# Altium integrated library National Semiconductor Voltage Reference.IntLib: 796 symbols (part 1 of 20)
Pins are listed as number, name and electrical type; pins without a type are passive.

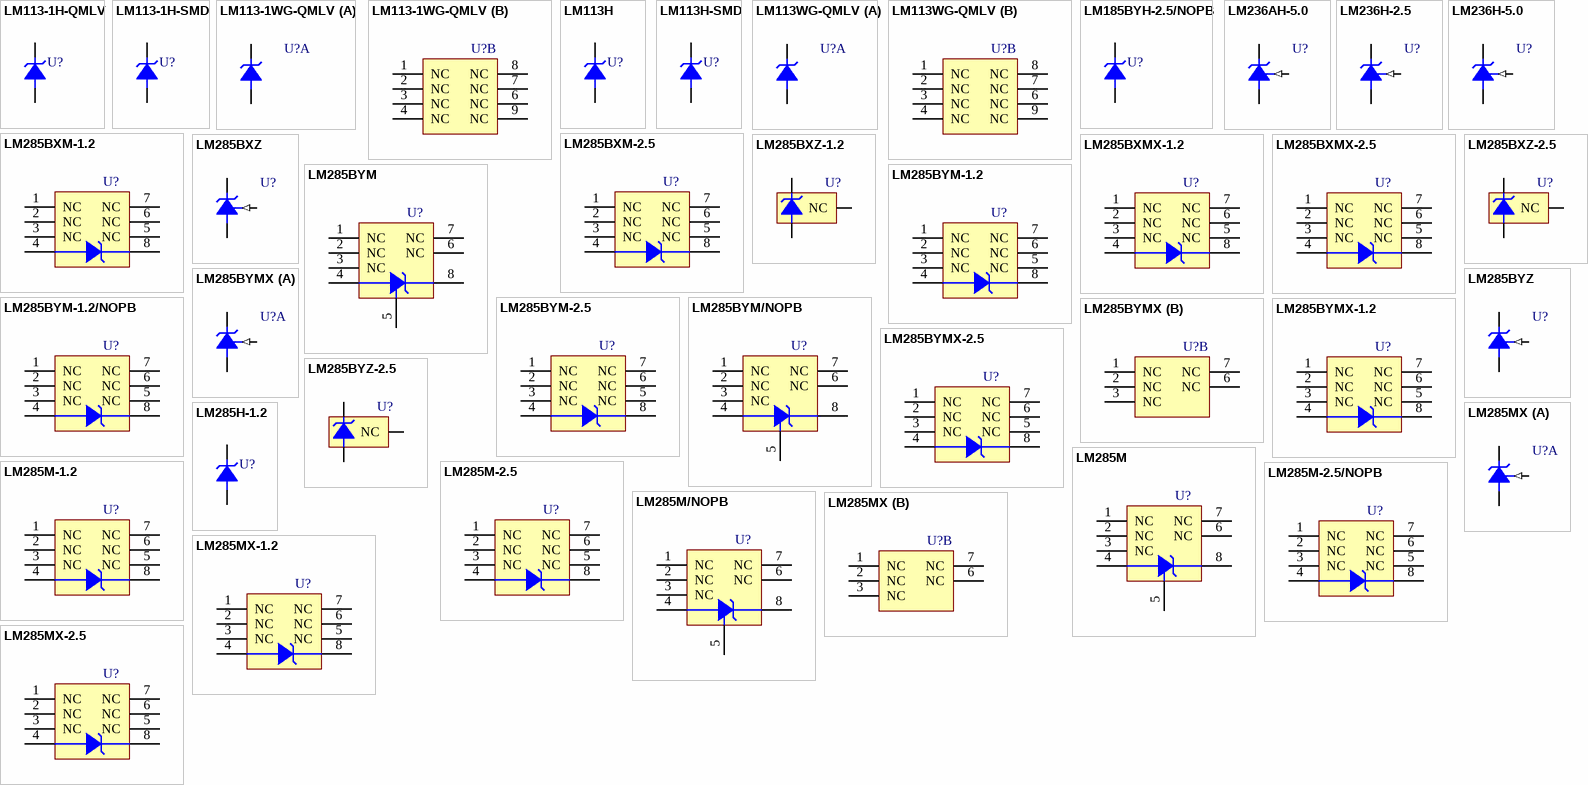
[diagram p0: symbols LM113-1H-QMLV to LM285MX-2.5]

## LM113-1H-QMLV
designator U?
Precision Reference, 2-pin TO-46; PartNumber: LM113-1H-QMLV; Manufacturer: National Semiconductor; PackageTopMarking: NSZSSXXYYA 9684302VXA Q; PowerWise: N; CompType: Voltage Reference IC; High-Reliability: Y; DatasheetVersion: Dec-1994; PackageVersion: revF, Apr-2002; PackageReference: H02A; PackageDescription: Metal Can, TO-46, 2 Lead, .100in Dia, P.C.; RoHS: N; PinCount: 2; Code_JEDEC: TO-46; ComponentLink1Description: Manufacturer URL; ComponentLink1URL: http://www.national.com/; ComponentLink2Description: LM113 Datasheet; ComponentLink2URL: http://www.national.com/ds/LM/LM113QML.pdf; ComponentLink3Description: LM113 Web Page; ComponentLink3URL: http://www.national.com/pf/LM/LM113.html; ComponentLink4Description: H02A Package Page; ComponentLink4URL: http://www.national.com/packaging/folders/h02a.html
footprint H02A (Can; 2 Leads; Pin Circle Dia. 2.54 mm; Lead Dia. 0.48 mm (max))
pins: 1 V+ (power), 2 V- (power)

## LM113-1H-SMD
designator U?
Precision Reference, 2-pin TO-46; PartNumber: LM113-1H-SMD; Manufacturer: National Semiconductor; PackageTopMarking: NSZSSXXYYA 8671102XA Q; PowerWise: N; CompType: Voltage Reference IC; High-Reliability: Y; DatasheetVersion: Dec-1994; PackageVersion: revF, Apr-2002; PackageReference: H02A; PackageDescription: Metal Can, TO-46, 2 Lead, .100in Dia, P.C.; RoHS: N; PinCount: 2; Code_JEDEC: TO-46; ComponentLink1Description: Manufacturer URL; ComponentLink1URL: http://www.national.com/; ComponentLink2Description: LM113 Datasheet; ComponentLink2URL: http://www.national.com/ds/LM/LM113QML.pdf; ComponentLink3Description: LM113 Web Page; ComponentLink3URL: http://www.national.com/pf/LM/LM113.html; ComponentLink4Description: H02A Package Page; ComponentLink4URL: http://www.national.com/packaging/folders/h02a.html
footprint H02A (Can; 2 Leads; Pin Circle Dia. 2.54 mm; Lead Dia. 0.48 mm (max))
pins: 1 V+ (power), 2 V- (power)

## LM113-1WG-QMLV
designator U?
Precision Reference, 10-pin CerPACK; PartNumber: LM113-1WG-QMLV; Manufacturer: National Semiconductor; PackageTopMarking: NS*ZSSXXYYA*9684302*VZA Q; PowerWise: N; CompType: Voltage Reference IC; High-Reliability: Y; DatasheetVersion: Dec-1994; PackageVersion: revF, Oct-2008; PackageReference: WG10A; PackageDescription: Cerpack, .270 x .241 x .070in, 10 Lead, .050in Pitch, Gull Wing; RoHS: N; PinCount: 10; ComponentLink1Description: Manufacturer URL; ComponentLink1URL: http://www.national.com/; ComponentLink2Description: LM113 Datasheet; ComponentLink2URL: http://www.national.com/ds/LM/LM113QML.pdf; ComponentLink3Description: LM113 Web Page; ComponentLink3URL: http://www.national.com/pf/LM/LM113.html; ComponentLink4Description: WG10A Package Page; ComponentLink4URL: http://www.national.com/packaging/folders/wg10a.html
footprint WG10A_N (CERPACK, 10-Leads, Body 6.9x6.3mm, Pitch 1.27mm, IPC Medium Density)
footprint WG10A_L (CERPACK, 10-Leads, Body 6.9x6.3mm, Pitch 1.27mm, IPC High Density)
footprint WG10A_M (CERPACK, 10-Leads, Body 6.9x6.3mm, Pitch 1.27mm, IPC Low Density)
part A pins: 5 -V, 10 +V
part B pins: 1 NC, 2 NC, 3 NC, 4 NC, 6 NC, 7 NC, 8 NC, 9 NC

## LM113H
designator U?
Precision Reference, 2-pin TO-46; PartNumber: LM113H; Manufacturer: National Semiconductor; PackageTopMarking: NSXYTTE# LM113H; PowerWise: N; CompType: Voltage Reference IC; High-Reliability: Y; DatasheetVersion: Dec-1994; PackageVersion: revF, Apr-2002; PackageReference: H02A; PackageDescription: Metal Can, TO-46, 2 Lead, .100in Dia, P.C.; RoHS: N; PinCount: 2; Code_JEDEC: TO-46; ComponentLink1Description: Manufacturer URL; ComponentLink1URL: http://www.national.com/; ComponentLink2Description: LM113 Datasheet; ComponentLink2URL: http://www.national.com/ds/LM/LM113.pdf; ComponentLink3Description: LM113 Web Page; ComponentLink3URL: http://www.national.com/pf/LM/LM113.html; ComponentLink4Description: H02A Package Page; ComponentLink4URL: http://www.national.com/packaging/folders/h02a.html
footprint H02A (Can; 2 Leads; Pin Circle Dia. 2.54 mm; Lead Dia. 0.48 mm (max))
pins: 1 V+ (power), 2 V- (power)

## LM113H-SMD
designator U?
Precision Reference, 2-pin TO-46; PartNumber: LM113H-SMD; Manufacturer: National Semiconductor; PackageTopMarking: NSZSSXXYYA 8671101XA Q; PowerWise: N; CompType: Voltage Reference IC; High-Reliability: Y; DatasheetVersion: Dec-1994; PackageVersion: revF, Apr-2002; PackageReference: H02A; PackageDescription: Metal Can, TO-46, 2 Lead, .100in Dia, P.C.; RoHS: N; PinCount: 2; Code_JEDEC: TO-46; ComponentLink1Description: Manufacturer URL; ComponentLink1URL: http://www.national.com/; ComponentLink2Description: LM113 Datasheet; ComponentLink2URL: http://www.national.com/ds/LM/LM113QML.pdf; ComponentLink3Description: LM113 Web Page; ComponentLink3URL: http://www.national.com/pf/LM/LM113.html; ComponentLink4Description: H02A Package Page; ComponentLink4URL: http://www.national.com/packaging/folders/h02a.html
footprint H02A (Can; 2 Leads; Pin Circle Dia. 2.54 mm; Lead Dia. 0.48 mm (max))
pins: 1 V+ (power), 2 V- (power)

## LM113WG-QMLV
designator U?
Precision Reference, 10-pin CerPACK; PartNumber: LM113WG-QMLV; Manufacturer: National Semiconductor; PackageTopMarking: NS*ZSSXXYYA*9684301*VZA Q; PowerWise: N; CompType: Voltage Reference IC; High-Reliability: Y; DatasheetVersion: Dec-1994; PackageVersion: revF, Oct-2008; PackageReference: WG10A; PackageDescription: Cerpack, .270 x .241 x .070in, 10 Lead, .050in Pitch, Gull Wing; RoHS: N; PinCount: 10; ComponentLink1Description: Manufacturer URL; ComponentLink1URL: http://www.national.com/; ComponentLink2Description: LM113 Datasheet; ComponentLink2URL: http://www.national.com/ds/LM/LM113QML.pdf; ComponentLink3Description: LM113 Web Page; ComponentLink3URL: http://www.national.com/pf/LM/LM113.html; ComponentLink4Description: WG10A Package Page; ComponentLink4URL: http://www.national.com/packaging/folders/wg10a.html
footprint WG10A_N (CERPACK, 10-Leads, Body 6.9x6.3mm, Pitch 1.27mm, IPC Medium Density)
footprint WG10A_L (CERPACK, 10-Leads, Body 6.9x6.3mm, Pitch 1.27mm, IPC High Density)
footprint WG10A_M (CERPACK, 10-Leads, Body 6.9x6.3mm, Pitch 1.27mm, IPC Low Density)
part A pins: 5 -V, 10 +V
part B pins: 1 NC, 2 NC, 3 NC, 4 NC, 6 NC, 7 NC, 8 NC, 9 NC

## LM185BYH-2.5/NOPB
designator U?
Micropower Voltage Reference Diode, 2-pin TO-46, Pb-Free; PartNumber: LM185BYH-2.5/NOPB; Manufacturer: National Semiconductor; PackageTopMarking: NSXYTTE# LM185BYH2.5; PowerWise: N; CompType: Voltage Reference IC; High-Reliability: Y; DatasheetVersion: Jan-2008; PackageVersion: revF, Apr-2002; PackageReference: H02A; PackageDescription: Metal Can, TO-46, 2 Lead, .100in Dia, P.C.; RoHS: Y; PinCount: 2; Code_JEDEC: TO-46; ComponentLink1Description: Manufacturer URL; ComponentLink1URL: http://www.national.com/; ComponentLink2Description: LM185-2.5 Datasheet; ComponentLink2URL: http://www.national.com/ds/LM/LM185-2.5.pdf; ComponentLink3Description: LM185-2.5 Web Page; ComponentLink3URL: http://www.national.com/pf/LM/LM185-2.5.html; ComponentLink4Description: H02A Package Page; ComponentLink4URL: http://www.national.com/packaging/folders/h02a.html
footprint H02A (Can; 2 Leads; Pin Circle Dia. 2.54 mm; Lead Dia. 0.48 mm (max))
pins: 1 V+ (power), 2 V- (power)

## LM236AH-5.0
designator U?
5.0V Reference Diode, 3-pin TO-46; PartNumber: LM236AH-5.0; Manufacturer: National Semiconductor; PackageTopMarking: NSXYTTE# LM236AH5.0; PowerWise: N; CompType: Voltage Reference IC; High-Reliability: Y; DatasheetVersion: Jun-2005; PackageVersion: revF, Apr-2002; PackageReference: H03H; PackageDescription: Metal Can, TO-46, 3 Lead, .100in Dia, P.C.; RoHS: N; PinCount: 3; Code_JEDEC: TO-46; ComponentLink1Description: Manufacturer URL; ComponentLink1URL: http://www.national.com/; ComponentLink2Description: LM136-5.0 Datasheet; ComponentLink2URL: http://www.national.com/ds/LM/LM136-5.0.pdf; ComponentLink3Description: LM136-5.0 Web Page; ComponentLink3URL: http://www.national.com/pf/LM/LM136-5.0.html; ComponentLink4Description: H03H Package Page; ComponentLink4URL: http://www.national.com/packaging/folders/h03h.html
footprint H03H (Can; 3 Leads; Pin Circle Dia. 2.54 mm; Lead Dia. 0.48 mm (max))
pins: 1 ADJ (in), 2 +V, 3 -V

## LM236H-2.5
designator U?
Voltage Reference Diode, 3-pin TO-46; PartNumber: LM236H-2.5; Manufacturer: National Semiconductor; PackageTopMarking: NSXYTTE# LM236H2.5; PowerWise: N; CompType: Voltage Reference IC; High-Reliability: Y; DatasheetVersion: Jun-2005; PackageVersion: revF, Apr-2002; PackageReference: H03H; PackageDescription: Metal Can, TO-46, 3 Lead, .100in Dia, P.C.; RoHS: N; PinCount: 3; Code_JEDEC: TO-46; ComponentLink1Description: Manufacturer URL; ComponentLink1URL: http://www.national.com/; ComponentLink2Description: LM136-2.5 Datasheet; ComponentLink2URL: http://www.national.com/ds/LM/LM136-2.5.pdf; ComponentLink3Description: LM136-2.5 Web Page; ComponentLink3URL: http://www.national.com/pf/LM/LM136-2.5.html; ComponentLink4Description: H03H Package Page; ComponentLink4URL: http://www.national.com/packaging/folders/h03h.html
footprint H03H (Can; 3 Leads; Pin Circle Dia. 2.54 mm; Lead Dia. 0.48 mm (max))
pins: 1 ADJ (in), 2 +V, 3 -V

## LM236H-5.0
designator U?
5.0V Reference Diode, 3-pin TO-46; PartNumber: LM236H-5.0; Manufacturer: National Semiconductor; PackageTopMarking: NSXYTTE# LM236H5.0; PowerWise: N; CompType: Voltage Reference IC; High-Reliability: Y; DatasheetVersion: Jun-2005; PackageVersion: revF, Apr-2002; PackageReference: H03H; PackageDescription: Metal Can, TO-46, 3 Lead, .100in Dia, P.C.; RoHS: N; PinCount: 3; Code_JEDEC: TO-46; ComponentLink1Description: Manufacturer URL; ComponentLink1URL: http://www.national.com/; ComponentLink2Description: LM136-5.0 Datasheet; ComponentLink2URL: http://www.national.com/ds/LM/LM136-5.0.pdf; ComponentLink3Description: LM136-5.0 Web Page; ComponentLink3URL: http://www.national.com/pf/LM/LM136-5.0.html; ComponentLink4Description: H03H Package Page; ComponentLink4URL: http://www.national.com/packaging/folders/h03h.html
footprint H03H (Can; 3 Leads; Pin Circle Dia. 2.54 mm; Lead Dia. 0.48 mm (max))
pins: 1 ADJ (in), 2 +V, 3 -V

## LM285BXM-1.2
designator U?
Micropower Voltage Reference Diode, 8-pin Narrow SOIC; PartNumber: LM285BXM-1.2; Manufacturer: National Semiconductor; PackageTopMarking: NSZXTT*285BX*M1.2; PowerWise: N; CompType: Voltage Reference IC; High-Reliability: Y; DatasheetVersion: Jan-2008; PackageVersion: revM, May-2009; PackageReference: M08A; PackageDescription: SOIC Narrow, 4.9 x 3.9 x 1.45mm, 8 Lead, 1.27mm Pitch; RoHS: N; PinCount: 8; Code_JEDEC: MS-012-AA; Code_IPC: SOIC127P600-8; ComponentLink1Description: Manufacturer URL; ComponentLink1URL: http://www.national.com/; ComponentLink2Description: LM285-1.2 Datasheet; ComponentLink2URL: http://www.national.com/ds/LM/LM285-1.2.pdf; ComponentLink3Description: LM285-1.2 Web Page; ComponentLink3URL: http://www.national.com/pf/LM/LM285-1.2.html; ComponentLink4Description: M08A Package Page; ComponentLink4URL: http://www.national.com/packaging/folders/m08a.html
footprint M08A_N (SOIC, 8-Leads, Body 4.9x3.9mm, Pitch 1.27mm, IPC Medium Density)
footprint M08A_L (SOIC, 8-Leads, Body 4.9x3.9mm, Pitch 1.27mm, IPC High Density)
footprint M08A_M (SOIC, 8-Leads, Body 4.9x3.9mm, Pitch 1.27mm, IPC Low Density)
pins: 1 NC, 2 NC, 3 NC, 4 -V, 5 NC, 6 NC, 7 NC, 8 +V

## LM285BXM-2.5
designator U?
Micropower Voltage Reference Diode, 8-pin Narrow SOIC; PartNumber: LM285BXM-2.5; Manufacturer: National Semiconductor; PackageTopMarking: NSZXTT*285BX*M2.5; PowerWise: N; CompType: Voltage Reference IC; High-Reliability: Y; DatasheetVersion: Jan-2008; PackageVersion: revM, May-2009; PackageReference: M08A; PackageDescription: SOIC Narrow, 4.9 x 3.9 x 1.45mm, 8 Lead, 1.27mm Pitch; RoHS: N; PinCount: 8; Code_JEDEC: MS-012-AA; Code_IPC: SOIC127P600-8; ComponentLink1Description: Manufacturer URL; ComponentLink1URL: http://www.national.com/; ComponentLink2Description: LM285-2.5 Datasheet; ComponentLink2URL: http://www.national.com/ds/LM/LM285-2.5.pdf; ComponentLink3Description: LM285-2.5 Web Page; ComponentLink3URL: http://www.national.com/pf/LM/LM285-2.5.html; ComponentLink4Description: M08A Package Page; ComponentLink4URL: http://www.national.com/packaging/folders/m08a.html
footprint M08A_N (SOIC, 8-Leads, Body 4.9x3.9mm, Pitch 1.27mm, IPC Medium Density)
footprint M08A_L (SOIC, 8-Leads, Body 4.9x3.9mm, Pitch 1.27mm, IPC High Density)
footprint M08A_M (SOIC, 8-Leads, Body 4.9x3.9mm, Pitch 1.27mm, IPC Low Density)
pins: 1 NC, 2 NC, 3 NC, 4 -V, 5 NC, 6 NC, 7 NC, 8 +V

## LM285BXMX-1.2
designator U?
Micropower Voltage Reference Diode, 8-pin Narrow SOIC; PartNumber: LM285BXMX-1.2; Manufacturer: National Semiconductor; PackageTopMarking: NSZXTT*285BX*M1.2; PowerWise: N; CompType: Voltage Reference IC; High-Reliability: Y; DatasheetVersion: Jan-2008; PackageVersion: revM, May-2009; PackageReference: M08A; PackageDescription: SOIC Narrow, 4.9 x 3.9 x 1.45mm, 8 Lead, 1.27mm Pitch; RoHS: N; PinCount: 8; Code_JEDEC: MS-012-AA; Code_IPC: SOIC127P600-8; ComponentLink1Description: Manufacturer URL; ComponentLink1URL: http://www.national.com/; ComponentLink2Description: LM285-1.2 Datasheet; ComponentLink2URL: http://www.national.com/ds/LM/LM285-1.2.pdf; ComponentLink3Description: LM285-1.2 Web Page; ComponentLink3URL: http://www.national.com/pf/LM/LM285-1.2.html; ComponentLink4Description: M08A Package Page; ComponentLink4URL: http://www.national.com/packaging/folders/m08a.html
footprint M08A_N (SOIC, 8-Leads, Body 4.9x3.9mm, Pitch 1.27mm, IPC Medium Density)
footprint M08A_L (SOIC, 8-Leads, Body 4.9x3.9mm, Pitch 1.27mm, IPC High Density)
footprint M08A_M (SOIC, 8-Leads, Body 4.9x3.9mm, Pitch 1.27mm, IPC Low Density)
pins: 1 NC, 2 NC, 3 NC, 4 -V, 5 NC, 6 NC, 7 NC, 8 +V

## LM285BXMX-2.5
designator U?
Micropower Voltage Reference Diode, 8-pin Narrow SOIC; PartNumber: LM285BXMX-2.5; Manufacturer: National Semiconductor; PackageTopMarking: NSZXTT*285BX*M2.5; PowerWise: N; CompType: Voltage Reference IC; High-Reliability: Y; DatasheetVersion: Jan-2008; PackageVersion: revM, May-2009; PackageReference: M08A; PackageDescription: SOIC Narrow, 4.9 x 3.9 x 1.45mm, 8 Lead, 1.27mm Pitch; RoHS: N; PinCount: 8; Code_JEDEC: MS-012-AA; Code_IPC: SOIC127P600-8; ComponentLink1Description: Manufacturer URL; ComponentLink1URL: http://www.national.com/; ComponentLink2Description: LM285-2.5 Datasheet; ComponentLink2URL: http://www.national.com/ds/LM/LM285-2.5.pdf; ComponentLink3Description: LM285-2.5 Web Page; ComponentLink3URL: http://www.national.com/pf/LM/LM285-2.5.html; ComponentLink4Description: M08A Package Page; ComponentLink4URL: http://www.national.com/packaging/folders/m08a.html
footprint M08A_N (SOIC, 8-Leads, Body 4.9x3.9mm, Pitch 1.27mm, IPC Medium Density)
footprint M08A_L (SOIC, 8-Leads, Body 4.9x3.9mm, Pitch 1.27mm, IPC High Density)
footprint M08A_M (SOIC, 8-Leads, Body 4.9x3.9mm, Pitch 1.27mm, IPC Low Density)
pins: 1 NC, 2 NC, 3 NC, 4 -V, 5 NC, 6 NC, 7 NC, 8 +V

## LM285BXZ
designator U?
Adjustable Micropower Voltage Reference, 3-pin TO-92; PartNumber: LM285BXZ; Manufacturer: National Semiconductor; PackageTopMarking: NSXYTT*LM285*BXZ; PowerWise: N; CompType: Voltage Reference IC; High-Reliability: Y; DatasheetVersion: Jan-2008; PackageVersion: revG, Sep-2000; PackageReference: Z03A; PackageDescription: TO-92, Molded, 3 Lead; RoHS: N; PinCount: 3; Code_JEDEC: TO-226-AA; ComponentLink1Description: Manufacturer URL; ComponentLink1URL: http://www.national.com/; ComponentLink2Description: LM285-ADJ Datasheet; ComponentLink2URL: http://www.national.com/ds/LM/LM285-ADJ.pdf; ComponentLink3Description: LM285-ADJ Web Page; ComponentLink3URL: http://www.national.com/pf/LM/LM285-ADJ.html; ComponentLink4Description: Z03A Package Page; ComponentLink4URL: http://www.national.com/packaging/folders/z03a.html
footprint Z03A (TO, Flat Index; 3 In-Line, Axial Leads; Body Dia. 5mm; Leads 0.55 x 0.50 mm (max))
pins: 1 FB (in), 2 +V, 3 -V

## LM285BXZ-1.2
designator U?
Micropower Voltage Reference Diode, 3-pin TO-92; PartNumber: LM285BXZ-1.2; Manufacturer: National Semiconductor; PackageTopMarking: NSXYTT*285BX*Z-1.2; PowerWise: N; CompType: Voltage Reference IC; High-Reliability: Y; DatasheetVersion: Jan-2008; PackageVersion: revG, Sep-2000; PackageReference: Z03A; PackageDescription: TO-92, Molded, 3 Lead; RoHS: N; PinCount: 3; Code_JEDEC: TO-226-AA; ComponentLink1Description: Manufacturer URL; ComponentLink1URL: http://www.national.com/; ComponentLink2Description: LM285-1.2 Datasheet; ComponentLink2URL: http://www.national.com/ds/LM/LM285-1.2.pdf; ComponentLink3Description: LM285-1.2 Web Page; ComponentLink3URL: http://www.national.com/pf/LM/LM285-1.2.html; ComponentLink4Description: Z03A Package Page; ComponentLink4URL: http://www.national.com/packaging/folders/z03a.html
footprint Z03A (TO, Flat Index; 3 In-Line, Axial Leads; Body Dia. 5mm; Leads 0.55 x 0.50 mm (max))
pins: 1 NC, 2 +V, 3 -V

## LM285BXZ-2.5
designator U?
Micropower Voltage Reference Diode, 3-pin TO-92; PartNumber: LM285BXZ-2.5; Manufacturer: National Semiconductor; PackageTopMarking: NSXYTT*285BX*Z2.5; PowerWise: N; CompType: Voltage Reference IC; High-Reliability: Y; DatasheetVersion: Jan-2008; PackageVersion: revG, Sep-2000; PackageReference: Z03A; PackageDescription: TO-92, Molded, 3 Lead; RoHS: N; PinCount: 3; Code_JEDEC: TO-226-AA; ComponentLink1Description: Manufacturer URL; ComponentLink1URL: http://www.national.com/; ComponentLink2Description: LM285-2.5 Datasheet; ComponentLink2URL: http://www.national.com/ds/LM/LM285-2.5.pdf; ComponentLink3Description: LM285-2.5 Web Page; ComponentLink3URL: http://www.national.com/pf/LM/LM285-2.5.html; ComponentLink4Description: Z03A Package Page; ComponentLink4URL: http://www.national.com/packaging/folders/z03a.html
footprint Z03A (TO, Flat Index; 3 In-Line, Axial Leads; Body Dia. 5mm; Leads 0.55 x 0.50 mm (max))
pins: 1 NC, 2 +V, 3 -V

## LM285BYM
designator U?
Adjustable Micropower Voltage Reference, 8-pin Narrow SOIC; PartNumber: LM285BYM; Manufacturer: National Semiconductor; PackageTopMarking: NSZXTT*LM285*BYM; PowerWise: N; CompType: Voltage Reference IC; High-Reliability: Y; DatasheetVersion: Jan-2008; PackageVersion: revM, May-2009; PackageReference: M08A; PackageDescription: SOIC Narrow, 4.9 x 3.9 x 1.45mm, 8 Lead, 1.27mm Pitch; RoHS: N; PinCount: 8; Code_JEDEC: MS-012-AA; Code_IPC: SOIC127P600-8; ComponentLink1Description: Manufacturer URL; ComponentLink1URL: http://www.national.com/; ComponentLink2Description: LM285-ADJ Datasheet; ComponentLink2URL: http://www.national.com/ds/LM/LM285-ADJ.pdf; ComponentLink3Description: LM285-ADJ Web Page; ComponentLink3URL: http://www.national.com/pf/LM/LM285-ADJ.html; ComponentLink4Description: M08A Package Page; ComponentLink4URL: http://www.national.com/packaging/folders/m08a.html
footprint M08A_N (SOIC, 8-Leads, Body 4.9x3.9mm, Pitch 1.27mm, IPC Medium Density)
footprint M08A_L (SOIC, 8-Leads, Body 4.9x3.9mm, Pitch 1.27mm, IPC High Density)
footprint M08A_M (SOIC, 8-Leads, Body 4.9x3.9mm, Pitch 1.27mm, IPC Low Density)
pins: 1 NC, 2 NC, 3 NC, 4 -V, 5 FB, 6 NC, 7 NC, 8 +V

## LM285BYM-1.2
designator U?
Micropower Voltage Reference Diode, 8-pin Narrow SOIC; PartNumber: LM285BYM-1.2; Manufacturer: National Semiconductor; PackageTopMarking: NSZXTT*285BY*M1.2; PowerWise: N; CompType: Voltage Reference IC; High-Reliability: Y; DatasheetVersion: Jan-2008; PackageVersion: revM, May-2009; PackageReference: M08A; PackageDescription: SOIC Narrow, 4.9 x 3.9 x 1.45mm, 8 Lead, 1.27mm Pitch; RoHS: N; PinCount: 8; Code_JEDEC: MS-012-AA; Code_IPC: SOIC127P600-8; ComponentLink1Description: Manufacturer URL; ComponentLink1URL: http://www.national.com/; ComponentLink2Description: LM285-1.2 Datasheet; ComponentLink2URL: http://www.national.com/ds/LM/LM285-1.2.pdf; ComponentLink3Description: LM285-1.2 Web Page; ComponentLink3URL: http://www.national.com/pf/LM/LM285-1.2.html; ComponentLink4Description: M08A Package Page; ComponentLink4URL: http://www.national.com/packaging/folders/m08a.html
footprint M08A_N (SOIC, 8-Leads, Body 4.9x3.9mm, Pitch 1.27mm, IPC Medium Density)
footprint M08A_L (SOIC, 8-Leads, Body 4.9x3.9mm, Pitch 1.27mm, IPC High Density)
footprint M08A_M (SOIC, 8-Leads, Body 4.9x3.9mm, Pitch 1.27mm, IPC Low Density)
pins: 1 NC, 2 NC, 3 NC, 4 -V, 5 NC, 6 NC, 7 NC, 8 +V

## LM285BYM-1.2/NOPB
designator U?
Micropower Voltage Reference Diode, 8-pin Narrow SOIC, Pb-Free; PartNumber: LM285BYM-1.2/NOPB; Manufacturer: National Semiconductor; PackageTopMarking: NSZXTT*285BY*M1.2; PowerWise: N; CompType: Voltage Reference IC; High-Reliability: Y; DatasheetVersion: Jan-2008; PackageVersion: revM, May-2009; PackageReference: M08A; PackageDescription: SOIC Narrow, 4.9 x 3.9 x 1.45mm, 8 Lead, 1.27mm Pitch; RoHS: Y; PinCount: 8; Code_JEDEC: MS-012-AA; Code_IPC: SOIC127P600-8; ComponentLink1Description: Manufacturer URL; ComponentLink1URL: http://www.national.com/; ComponentLink2Description: LM285-1.2 Datasheet; ComponentLink2URL: http://www.national.com/ds/LM/LM285-1.2.pdf; ComponentLink3Description: LM285-1.2 Web Page; ComponentLink3URL: http://www.national.com/pf/LM/LM285-1.2.html; ComponentLink4Description: M08A Package Page; ComponentLink4URL: http://www.national.com/packaging/folders/m08a.html
footprint M08A_N (SOIC, 8-Leads, Body 4.9x3.9mm, Pitch 1.27mm, IPC Medium Density)
footprint M08A_L (SOIC, 8-Leads, Body 4.9x3.9mm, Pitch 1.27mm, IPC High Density)
footprint M08A_M (SOIC, 8-Leads, Body 4.9x3.9mm, Pitch 1.27mm, IPC Low Density)
pins: 1 NC, 2 NC, 3 NC, 4 -V, 5 NC, 6 NC, 7 NC, 8 +V

## LM285BYM-2.5
designator U?
Micropower Voltage Reference Diode, 8-pin Narrow SOIC; PartNumber: LM285BYM-2.5; Manufacturer: National Semiconductor; PackageTopMarking: NSZXTT*285BY*M2.5; PowerWise: N; CompType: Voltage Reference IC; High-Reliability: Y; DatasheetVersion: Jan-2008; PackageVersion: revM, May-2009; PackageReference: M08A; PackageDescription: SOIC Narrow, 4.9 x 3.9 x 1.45mm, 8 Lead, 1.27mm Pitch; RoHS: N; PinCount: 8; Code_JEDEC: MS-012-AA; Code_IPC: SOIC127P600-8; ComponentLink1Description: Manufacturer URL; ComponentLink1URL: http://www.national.com/; ComponentLink2Description: LM285-2.5 Datasheet; ComponentLink2URL: http://www.national.com/ds/LM/LM285-2.5.pdf; ComponentLink3Description: LM285-2.5 Web Page; ComponentLink3URL: http://www.national.com/pf/LM/LM285-2.5.html; ComponentLink4Description: M08A Package Page; ComponentLink4URL: http://www.national.com/packaging/folders/m08a.html
footprint M08A_N (SOIC, 8-Leads, Body 4.9x3.9mm, Pitch 1.27mm, IPC Medium Density)
footprint M08A_L (SOIC, 8-Leads, Body 4.9x3.9mm, Pitch 1.27mm, IPC High Density)
footprint M08A_M (SOIC, 8-Leads, Body 4.9x3.9mm, Pitch 1.27mm, IPC Low Density)
pins: 1 NC, 2 NC, 3 NC, 4 -V, 5 NC, 6 NC, 7 NC, 8 +V

## LM285BYM/NOPB
designator U?
Adjustable Micropower Voltage Reference, 8-pin Narrow SOIC, Pb-Free; PartNumber: LM285BYM/NOPB; Manufacturer: National Semiconductor; PackageTopMarking: NSZXTT*LM285*BYM; PowerWise: N; CompType: Voltage Reference IC; High-Reliability: Y; DatasheetVersion: Jan-2008; PackageVersion: revM, May-2009; PackageReference: M08A; PackageDescription: SOIC Narrow, 4.9 x 3.9 x 1.45mm, 8 Lead, 1.27mm Pitch; RoHS: Y; PinCount: 8; Code_JEDEC: MS-012-AA; Code_IPC: SOIC127P600-8; ComponentLink1Description: Manufacturer URL; ComponentLink1URL: http://www.national.com/; ComponentLink2Description: LM285-ADJ Datasheet; ComponentLink2URL: http://www.national.com/ds/LM/LM285-ADJ.pdf; ComponentLink3Description: LM285-ADJ Web Page; ComponentLink3URL: http://www.national.com/pf/LM/LM285-ADJ.html; ComponentLink4Description: M08A Package Page; ComponentLink4URL: http://www.national.com/packaging/folders/m08a.html
footprint M08A_N (SOIC, 8-Leads, Body 4.9x3.9mm, Pitch 1.27mm, IPC Medium Density)
footprint M08A_L (SOIC, 8-Leads, Body 4.9x3.9mm, Pitch 1.27mm, IPC High Density)
footprint M08A_M (SOIC, 8-Leads, Body 4.9x3.9mm, Pitch 1.27mm, IPC Low Density)
pins: 1 NC, 2 NC, 3 NC, 4 -V, 5 FB, 6 NC, 7 NC, 8 +V

## LM285BYMX
designator U?
Adjustable Micropower Voltage Reference, 8-pin Narrow SOIC; PartNumber: LM285BYMX; Manufacturer: National Semiconductor; PackageTopMarking: NSZXTT*LM285*BYM; PowerWise: N; CompType: Voltage Reference IC; High-Reliability: Y; DatasheetVersion: Jan-2008; PackageVersion: revM, May-2009; PackageReference: M08A; PackageDescription: SOIC Narrow, 4.9 x 3.9 x 1.45mm, 8 Lead, 1.27mm Pitch; RoHS: N; PinCount: 8; Code_JEDEC: MS-012-AA; Code_IPC: SOIC127P600-8; ComponentLink1Description: Manufacturer URL; ComponentLink1URL: http://www.national.com/; ComponentLink2Description: LM285-ADJ Datasheet; ComponentLink2URL: http://www.national.com/ds/LM/LM285-ADJ.pdf; ComponentLink3Description: LM285-ADJ Web Page; ComponentLink3URL: http://www.national.com/pf/LM/LM285-ADJ.html; ComponentLink4Description: M08A Package Page; ComponentLink4URL: http://www.national.com/packaging/folders/m08a.html
footprint M08A_N (SOIC, 8-Leads, Body 4.9x3.9mm, Pitch 1.27mm, IPC Medium Density)
footprint M08A_L (SOIC, 8-Leads, Body 4.9x3.9mm, Pitch 1.27mm, IPC High Density)
footprint M08A_M (SOIC, 8-Leads, Body 4.9x3.9mm, Pitch 1.27mm, IPC Low Density)
part A pins: 4 -V, 5 FB (in), 8 +V
part B pins: 1 NC, 2 NC, 3 NC, 6 NC, 7 NC

## LM285BYMX-1.2
designator U?
Micropower Voltage Reference Diode, 8-pin Narrow SOIC; PartNumber: LM285BYMX-1.2; Manufacturer: National Semiconductor; PackageTopMarking: NSZXTT*285BY*M1.2; PowerWise: N; CompType: Voltage Reference IC; High-Reliability: Y; DatasheetVersion: Jan-2008; PackageVersion: revM, May-2009; PackageReference: M08A; PackageDescription: SOIC Narrow, 4.9 x 3.9 x 1.45mm, 8 Lead, 1.27mm Pitch; RoHS: N; PinCount: 8; Code_JEDEC: MS-012-AA; Code_IPC: SOIC127P600-8; ComponentLink1Description: Manufacturer URL; ComponentLink1URL: http://www.national.com/; ComponentLink2Description: LM285-1.2 Datasheet; ComponentLink2URL: http://www.national.com/ds/LM/LM285-1.2.pdf; ComponentLink3Description: LM285-1.2 Web Page; ComponentLink3URL: http://www.national.com/pf/LM/LM285-1.2.html; ComponentLink4Description: M08A Package Page; ComponentLink4URL: http://www.national.com/packaging/folders/m08a.html
footprint M08A_N (SOIC, 8-Leads, Body 4.9x3.9mm, Pitch 1.27mm, IPC Medium Density)
footprint M08A_L (SOIC, 8-Leads, Body 4.9x3.9mm, Pitch 1.27mm, IPC High Density)
footprint M08A_M (SOIC, 8-Leads, Body 4.9x3.9mm, Pitch 1.27mm, IPC Low Density)
pins: 1 NC, 2 NC, 3 NC, 4 -V, 5 NC, 6 NC, 7 NC, 8 +V

## LM285BYMX-2.5
designator U?
Micropower Voltage Reference Diode, 8-pin Narrow SOIC; PartNumber: LM285BYMX-2.5; Manufacturer: National Semiconductor; PackageTopMarking: NSZXTT*285BY*M2.5; PowerWise: N; CompType: Voltage Reference IC; High-Reliability: Y; DatasheetVersion: Jan-2008; PackageVersion: revM, May-2009; PackageReference: M08A; PackageDescription: SOIC Narrow, 4.9 x 3.9 x 1.45mm, 8 Lead, 1.27mm Pitch; RoHS: N; PinCount: 8; Code_JEDEC: MS-012-AA; Code_IPC: SOIC127P600-8; ComponentLink1Description: Manufacturer URL; ComponentLink1URL: http://www.national.com/; ComponentLink2Description: LM285-2.5 Datasheet; ComponentLink2URL: http://www.national.com/ds/LM/LM285-2.5.pdf; ComponentLink3Description: LM285-2.5 Web Page; ComponentLink3URL: http://www.national.com/pf/LM/LM285-2.5.html; ComponentLink4Description: M08A Package Page; ComponentLink4URL: http://www.national.com/packaging/folders/m08a.html
footprint M08A_N (SOIC, 8-Leads, Body 4.9x3.9mm, Pitch 1.27mm, IPC Medium Density)
footprint M08A_L (SOIC, 8-Leads, Body 4.9x3.9mm, Pitch 1.27mm, IPC High Density)
footprint M08A_M (SOIC, 8-Leads, Body 4.9x3.9mm, Pitch 1.27mm, IPC Low Density)
pins: 1 NC, 2 NC, 3 NC, 4 -V, 5 NC, 6 NC, 7 NC, 8 +V

## LM285BYZ
designator U?
Adjustable Micropower Voltage Reference, 3-pin TO-92; PartNumber: LM285BYZ; Manufacturer: National Semiconductor; PackageTopMarking: NSXYTT*LM285*BYZ; PowerWise: N; CompType: Voltage Reference IC; High-Reliability: Y; DatasheetVersion: Jan-2008; PackageVersion: revG, Sep-2000; PackageReference: Z03A; PackageDescription: TO-92, Molded, 3 Lead; RoHS: N; PinCount: 3; Code_JEDEC: TO-226-AA; ComponentLink1Description: Manufacturer URL; ComponentLink1URL: http://www.national.com/; ComponentLink2Description: LM285-ADJ Datasheet; ComponentLink2URL: http://www.national.com/ds/LM/LM285-ADJ.pdf; ComponentLink3Description: LM285-ADJ Web Page; ComponentLink3URL: http://www.national.com/pf/LM/LM285-ADJ.html; ComponentLink4Description: Z03A Package Page; ComponentLink4URL: http://www.national.com/packaging/folders/z03a.html
footprint Z03A (TO, Flat Index; 3 In-Line, Axial Leads; Body Dia. 5mm; Leads 0.55 x 0.50 mm (max))
pins: 1 FB (in), 2 +V, 3 -V

## LM285BYZ-2.5
designator U?
Micropower Voltage Reference Diode, 3-pin TO-92; PartNumber: LM285BYZ-2.5; Manufacturer: National Semiconductor; PackageTopMarking: NSXYTT*285BY*Z2.5; PowerWise: N; CompType: Voltage Reference IC; High-Reliability: Y; DatasheetVersion: Jan-2008; PackageVersion: revG, Sep-2000; PackageReference: Z03A; PackageDescription: TO-92, Molded, 3 Lead; RoHS: N; PinCount: 3; Code_JEDEC: TO-226-AA; ComponentLink1Description: Manufacturer URL; ComponentLink1URL: http://www.national.com/; ComponentLink2Description: LM285-2.5 Datasheet; ComponentLink2URL: http://www.national.com/ds/LM/LM285-2.5.pdf; ComponentLink3Description: LM285-2.5 Web Page; ComponentLink3URL: http://www.national.com/pf/LM/LM285-2.5.html; ComponentLink4Description: Z03A Package Page; ComponentLink4URL: http://www.national.com/packaging/folders/z03a.html
footprint Z03A (TO, Flat Index; 3 In-Line, Axial Leads; Body Dia. 5mm; Leads 0.55 x 0.50 mm (max))
pins: 1 NC, 2 +V, 3 -V

## LM285H-1.2
designator U?
Micropower Voltage Reference Diode, 2-pin TO-46; PartNumber: LM285H-1.2; Manufacturer: National Semiconductor; PackageTopMarking: NSXYTTE# LM285H1.2; PowerWise: N; CompType: Voltage Reference IC; High-Reliability: Y; DatasheetVersion: Jan-2008; PackageVersion: revF, Apr-2002; PackageReference: H02A; PackageDescription: Metal Can, TO-46, 2 Lead, .100in Dia, P.C.; RoHS: N; PinCount: 2; Code_JEDEC: TO-46; ComponentLink1Description: Manufacturer URL; ComponentLink1URL: http://www.national.com/; ComponentLink2Description: LM285-1.2 Datasheet; ComponentLink2URL: http://www.national.com/ds/LM/LM285-1.2.pdf; ComponentLink3Description: LM285-1.2 Web Page; ComponentLink3URL: http://www.national.com/pf/LM/LM285-1.2.html; ComponentLink4Description: H02A Package Page; ComponentLink4URL: http://www.national.com/packaging/folders/h02a.html
footprint H02A (Can; 2 Leads; Pin Circle Dia. 2.54 mm; Lead Dia. 0.48 mm (max))
pins: 1 V+ (power), 2 V- (power)

## LM285M
designator U?
Adjustable Micropower Voltage Reference, 8-pin Narrow SOIC; PartNumber: LM285M; Manufacturer: National Semiconductor; PackageTopMarking: NSZXTT*LM285*M; PowerWise: N; CompType: Voltage Reference IC; High-Reliability: Y; DatasheetVersion: Jan-2008; PackageVersion: revM, May-2009; PackageReference: M08A; PackageDescription: SOIC Narrow, 4.9 x 3.9 x 1.45mm, 8 Lead, 1.27mm Pitch; RoHS: N; PinCount: 8; Code_JEDEC: MS-012-AA; Code_IPC: SOIC127P600-8; ComponentLink1Description: Manufacturer URL; ComponentLink1URL: http://www.national.com/; ComponentLink2Description: LM285-ADJ Datasheet; ComponentLink2URL: http://www.national.com/ds/LM/LM285-ADJ.pdf; ComponentLink3Description: LM285-ADJ Web Page; ComponentLink3URL: http://www.national.com/pf/LM/LM285-ADJ.html; ComponentLink4Description: M08A Package Page; ComponentLink4URL: http://www.national.com/packaging/folders/m08a.html
footprint M08A_N (SOIC, 8-Leads, Body 4.9x3.9mm, Pitch 1.27mm, IPC Medium Density)
footprint M08A_L (SOIC, 8-Leads, Body 4.9x3.9mm, Pitch 1.27mm, IPC High Density)
footprint M08A_M (SOIC, 8-Leads, Body 4.9x3.9mm, Pitch 1.27mm, IPC Low Density)
pins: 1 NC, 2 NC, 3 NC, 4 -V, 5 FB, 6 NC, 7 NC, 8 +V

## LM285M-1.2
designator U?
Micropower Voltage Reference Diode, 8-pin Narrow SOIC; PartNumber: LM285M-1.2; Manufacturer: National Semiconductor; PackageTopMarking: NSZXTT*LM285*M1.2; PowerWise: N; CompType: Voltage Reference IC; High-Reliability: Y; DatasheetVersion: Jan-2008; PackageVersion: revM, May-2009; PackageReference: M08A; PackageDescription: SOIC Narrow, 4.9 x 3.9 x 1.45mm, 8 Lead, 1.27mm Pitch; RoHS: N; PinCount: 8; Code_JEDEC: MS-012-AA; Code_IPC: SOIC127P600-8; ComponentLink1Description: Manufacturer URL; ComponentLink1URL: http://www.national.com/; ComponentLink2Description: LM285-1.2 Datasheet; ComponentLink2URL: http://www.national.com/ds/LM/LM285-1.2.pdf; ComponentLink3Description: LM285-1.2 Web Page; ComponentLink3URL: http://www.national.com/pf/LM/LM285-1.2.html; ComponentLink4Description: M08A Package Page; ComponentLink4URL: http://www.national.com/packaging/folders/m08a.html
footprint M08A_N (SOIC, 8-Leads, Body 4.9x3.9mm, Pitch 1.27mm, IPC Medium Density)
footprint M08A_L (SOIC, 8-Leads, Body 4.9x3.9mm, Pitch 1.27mm, IPC High Density)
footprint M08A_M (SOIC, 8-Leads, Body 4.9x3.9mm, Pitch 1.27mm, IPC Low Density)
pins: 1 NC, 2 NC, 3 NC, 4 -V, 5 NC, 6 NC, 7 NC, 8 +V

## LM285M-2.5
designator U?
Micropower Voltage Reference Diode, 8-pin Narrow SOIC; PartNumber: LM285M-2.5; Manufacturer: National Semiconductor; PackageTopMarking: NSZXTT*LM285*M2.5; PowerWise: N; CompType: Voltage Reference IC; High-Reliability: Y; DatasheetVersion: Jan-2008; PackageVersion: revM, May-2009; PackageReference: M08A; PackageDescription: SOIC Narrow, 4.9 x 3.9 x 1.45mm, 8 Lead, 1.27mm Pitch; RoHS: N; PinCount: 8; Code_JEDEC: MS-012-AA; Code_IPC: SOIC127P600-8; ComponentLink1Description: Manufacturer URL; ComponentLink1URL: http://www.national.com/; ComponentLink2Description: LM285-2.5 Datasheet; ComponentLink2URL: http://www.national.com/ds/LM/LM285-2.5.pdf; ComponentLink3Description: LM285-2.5 Web Page; ComponentLink3URL: http://www.national.com/pf/LM/LM285-2.5.html; ComponentLink4Description: M08A Package Page; ComponentLink4URL: http://www.national.com/packaging/folders/m08a.html
footprint M08A_N (SOIC, 8-Leads, Body 4.9x3.9mm, Pitch 1.27mm, IPC Medium Density)
footprint M08A_L (SOIC, 8-Leads, Body 4.9x3.9mm, Pitch 1.27mm, IPC High Density)
footprint M08A_M (SOIC, 8-Leads, Body 4.9x3.9mm, Pitch 1.27mm, IPC Low Density)
pins: 1 NC, 2 NC, 3 NC, 4 -V, 5 NC, 6 NC, 7 NC, 8 +V

## LM285M-2.5/NOPB
designator U?
Micropower Voltage Reference Diode, 8-pin Narrow SOIC, Pb-Free; PartNumber: LM285M-2.5/NOPB; Manufacturer: National Semiconductor; PackageTopMarking: NSZXTT*LM285*M2.5; PowerWise: N; CompType: Voltage Reference IC; High-Reliability: Y; DatasheetVersion: Jan-2008; PackageVersion: revM, May-2009; PackageReference: M08A; PackageDescription: SOIC Narrow, 4.9 x 3.9 x 1.45mm, 8 Lead, 1.27mm Pitch; RoHS: Y; PinCount: 8; Code_JEDEC: MS-012-AA; Code_IPC: SOIC127P600-8; ComponentLink1Description: Manufacturer URL; ComponentLink1URL: http://www.national.com/; ComponentLink2Description: LM285-2.5 Datasheet; ComponentLink2URL: http://www.national.com/ds/LM/LM285-2.5.pdf; ComponentLink3Description: LM285-2.5 Web Page; ComponentLink3URL: http://www.national.com/pf/LM/LM285-2.5.html; ComponentLink4Description: M08A Package Page; ComponentLink4URL: http://www.national.com/packaging/folders/m08a.html
footprint M08A_N (SOIC, 8-Leads, Body 4.9x3.9mm, Pitch 1.27mm, IPC Medium Density)
footprint M08A_L (SOIC, 8-Leads, Body 4.9x3.9mm, Pitch 1.27mm, IPC High Density)
footprint M08A_M (SOIC, 8-Leads, Body 4.9x3.9mm, Pitch 1.27mm, IPC Low Density)
pins: 1 NC, 2 NC, 3 NC, 4 -V, 5 NC, 6 NC, 7 NC, 8 +V

## LM285M/NOPB
designator U?
Adjustable Micropower Voltage Reference, 8-pin Narrow SOIC, Pb-Free; PartNumber: LM285M/NOPB; Manufacturer: National Semiconductor; PackageTopMarking: NSZXTT*LM285*M; PowerWise: N; CompType: Voltage Reference IC; High-Reliability: Y; DatasheetVersion: Jan-2008; PackageVersion: revM, May-2009; PackageReference: M08A; PackageDescription: SOIC Narrow, 4.9 x 3.9 x 1.45mm, 8 Lead, 1.27mm Pitch; RoHS: Y; PinCount: 8; Code_JEDEC: MS-012-AA; Code_IPC: SOIC127P600-8; ComponentLink1Description: Manufacturer URL; ComponentLink1URL: http://www.national.com/; ComponentLink2Description: LM285-ADJ Datasheet; ComponentLink2URL: http://www.national.com/ds/LM/LM285-ADJ.pdf; ComponentLink3Description: LM285-ADJ Web Page; ComponentLink3URL: http://www.national.com/pf/LM/LM285-ADJ.html; ComponentLink4Description: M08A Package Page; ComponentLink4URL: http://www.national.com/packaging/folders/m08a.html
footprint M08A_N (SOIC, 8-Leads, Body 4.9x3.9mm, Pitch 1.27mm, IPC Medium Density)
footprint M08A_L (SOIC, 8-Leads, Body 4.9x3.9mm, Pitch 1.27mm, IPC High Density)
footprint M08A_M (SOIC, 8-Leads, Body 4.9x3.9mm, Pitch 1.27mm, IPC Low Density)
pins: 1 NC, 2 NC, 3 NC, 4 -V, 5 FB, 6 NC, 7 NC, 8 +V

## LM285MX
designator U?
Adjustable Micropower Voltage Reference, 8-pin Narrow SOIC; PartNumber: LM285MX; Manufacturer: National Semiconductor; PackageTopMarking: NSZXTT*LM285*M; PowerWise: N; CompType: Voltage Reference IC; High-Reliability: Y; DatasheetVersion: Jan-2008; PackageVersion: revM, May-2009; PackageReference: M08A; PackageDescription: SOIC Narrow, 4.9 x 3.9 x 1.45mm, 8 Lead, 1.27mm Pitch; RoHS: N; PinCount: 8; Code_JEDEC: MS-012-AA; Code_IPC: SOIC127P600-8; ComponentLink1Description: Manufacturer URL; ComponentLink1URL: http://www.national.com/; ComponentLink2Description: LM285-ADJ Datasheet; ComponentLink2URL: http://www.national.com/ds/LM/LM285-ADJ.pdf; ComponentLink3Description: LM285-ADJ Web Page; ComponentLink3URL: http://www.national.com/pf/LM/LM285-ADJ.html; ComponentLink4Description: M08A Package Page; ComponentLink4URL: http://www.national.com/packaging/folders/m08a.html
footprint M08A_N (SOIC, 8-Leads, Body 4.9x3.9mm, Pitch 1.27mm, IPC Medium Density)
footprint M08A_L (SOIC, 8-Leads, Body 4.9x3.9mm, Pitch 1.27mm, IPC High Density)
footprint M08A_M (SOIC, 8-Leads, Body 4.9x3.9mm, Pitch 1.27mm, IPC Low Density)
part A pins: 4 -V, 5 FB (in), 8 +V
part B pins: 1 NC, 2 NC, 3 NC, 6 NC, 7 NC

## LM285MX-1.2
designator U?
Micropower Voltage Reference Diode, 8-pin Narrow SOIC; PartNumber: LM285MX-1.2; Manufacturer: National Semiconductor; PackageTopMarking: NSZXTT*LM285*M1.2; PowerWise: N; CompType: Voltage Reference IC; High-Reliability: Y; DatasheetVersion: Jan-2008; PackageVersion: revM, May-2009; PackageReference: M08A; PackageDescription: SOIC Narrow, 4.9 x 3.9 x 1.45mm, 8 Lead, 1.27mm Pitch; RoHS: N; PinCount: 8; Code_JEDEC: MS-012-AA; Code_IPC: SOIC127P600-8; ComponentLink1Description: Manufacturer URL; ComponentLink1URL: http://www.national.com/; ComponentLink2Description: LM285-1.2 Datasheet; ComponentLink2URL: http://www.national.com/ds/LM/LM285-1.2.pdf; ComponentLink3Description: LM285-1.2 Web Page; ComponentLink3URL: http://www.national.com/pf/LM/LM285-1.2.html; ComponentLink4Description: M08A Package Page; ComponentLink4URL: http://www.national.com/packaging/folders/m08a.html
footprint M08A_N (SOIC, 8-Leads, Body 4.9x3.9mm, Pitch 1.27mm, IPC Medium Density)
footprint M08A_L (SOIC, 8-Leads, Body 4.9x3.9mm, Pitch 1.27mm, IPC High Density)
footprint M08A_M (SOIC, 8-Leads, Body 4.9x3.9mm, Pitch 1.27mm, IPC Low Density)
pins: 1 NC, 2 NC, 3 NC, 4 -V, 5 NC, 6 NC, 7 NC, 8 +V

## LM285MX-2.5
designator U?
Micropower Voltage Reference Diode, 8-pin Narrow SOIC; PartNumber: LM285MX-2.5; Manufacturer: National Semiconductor; PackageTopMarking: NSZXTT*LM285*M2.5; PowerWise: N; CompType: Voltage Reference IC; High-Reliability: Y; DatasheetVersion: Jan-2008; PackageVersion: revM, May-2009; PackageReference: M08A; PackageDescription: SOIC Narrow, 4.9 x 3.9 x 1.45mm, 8 Lead, 1.27mm Pitch; RoHS: N; PinCount: 8; Code_JEDEC: MS-012-AA; Code_IPC: SOIC127P600-8; ComponentLink1Description: Manufacturer URL; ComponentLink1URL: http://www.national.com/; ComponentLink2Description: LM285-2.5 Datasheet; ComponentLink2URL: http://www.national.com/ds/LM/LM285-2.5.pdf; ComponentLink3Description: LM285-2.5 Web Page; ComponentLink3URL: http://www.national.com/pf/LM/LM285-2.5.html; ComponentLink4Description: M08A Package Page; ComponentLink4URL: http://www.national.com/packaging/folders/m08a.html
footprint M08A_N (SOIC, 8-Leads, Body 4.9x3.9mm, Pitch 1.27mm, IPC Medium Density)
footprint M08A_L (SOIC, 8-Leads, Body 4.9x3.9mm, Pitch 1.27mm, IPC High Density)
footprint M08A_M (SOIC, 8-Leads, Body 4.9x3.9mm, Pitch 1.27mm, IPC Low Density)
pins: 1 NC, 2 NC, 3 NC, 4 -V, 5 NC, 6 NC, 7 NC, 8 +V

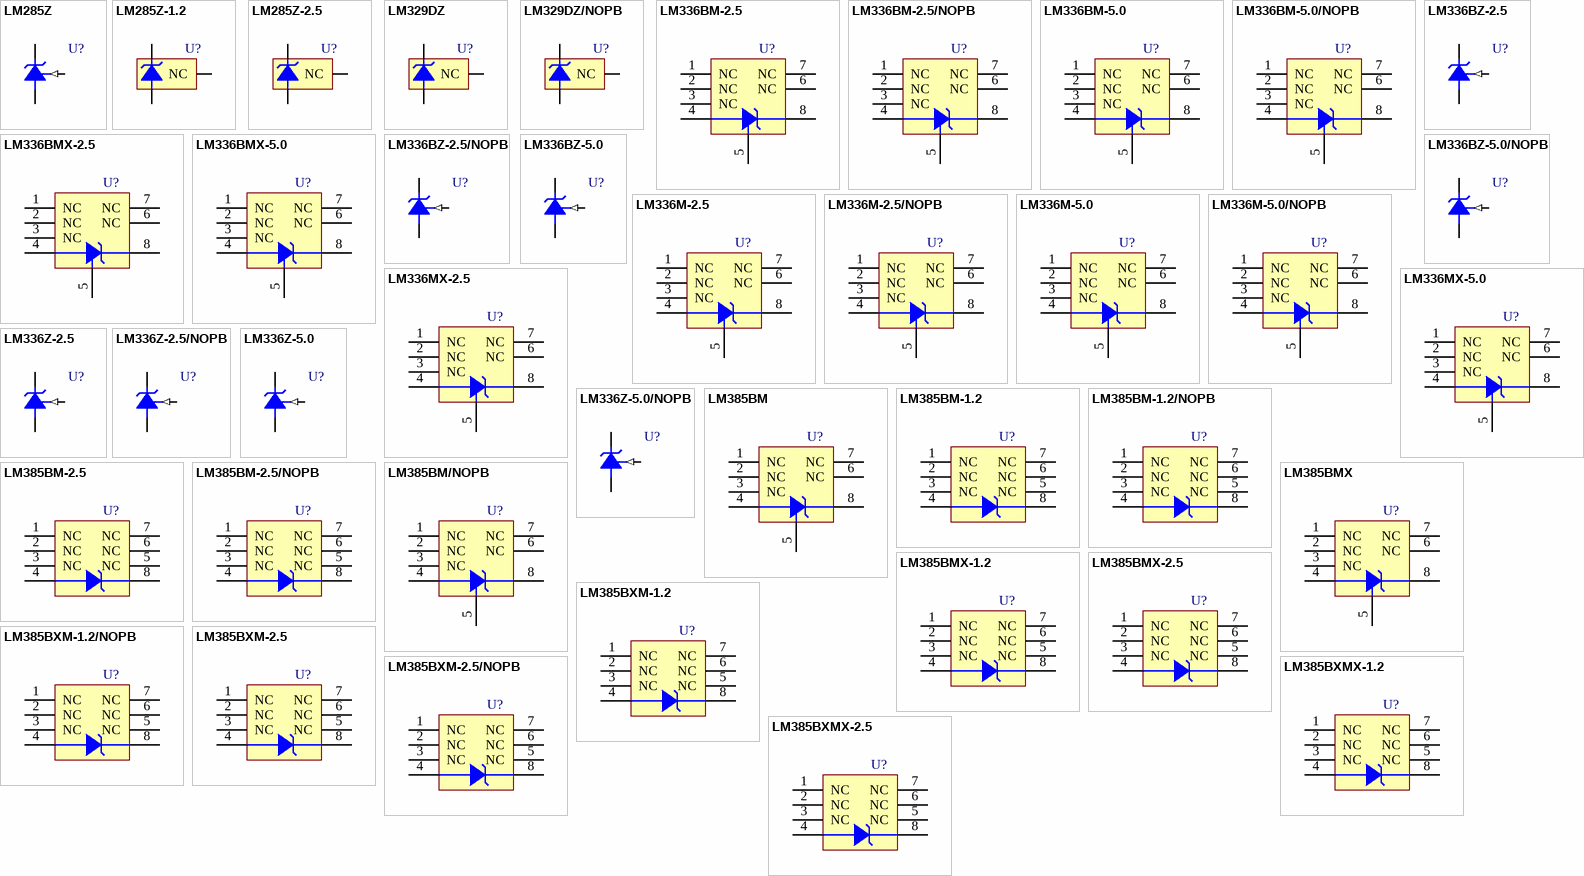
[diagram p1: symbols LM285Z to LM385BXMX-2.5]

## LM285Z
designator U?
Adjustable Micropower Voltage Reference, 3-pin TO-92; PartNumber: LM285Z; Manufacturer: National Semiconductor; PackageTopMarking: NSXYTT*LM285*Z; PowerWise: N; CompType: Voltage Reference IC; High-Reliability: Y; DatasheetVersion: Jan-2008; PackageVersion: revG, Sep-2000; PackageReference: Z03A; PackageDescription: TO-92, Molded, 3 Lead; RoHS: N; PinCount: 3; Code_JEDEC: TO-226-AA; ComponentLink1Description: Manufacturer URL; ComponentLink1URL: http://www.national.com/; ComponentLink2Description: LM285-ADJ Datasheet; ComponentLink2URL: http://www.national.com/ds/LM/LM285-ADJ.pdf; ComponentLink3Description: LM285-ADJ Web Page; ComponentLink3URL: http://www.national.com/pf/LM/LM285-ADJ.html; ComponentLink4Description: Z03A Package Page; ComponentLink4URL: http://www.national.com/packaging/folders/z03a.html
footprint Z03A (TO, Flat Index; 3 In-Line, Axial Leads; Body Dia. 5mm; Leads 0.55 x 0.50 mm (max))
pins: 1 FB (in), 2 +V, 3 -V

## LM285Z-1.2
designator U?
Micropower Voltage Reference Diode, 3-pin TO-92; PartNumber: LM285Z-1.2; Manufacturer: National Semiconductor; PackageTopMarking: NSXYTT*LM28*5Z-1.2; PowerWise: N; CompType: Voltage Reference IC; High-Reliability: Y; DatasheetVersion: Jan-2008; PackageVersion: revG, Sep-2000; PackageReference: Z03A; PackageDescription: TO-92, Molded, 3 Lead; RoHS: N; PinCount: 3; Code_JEDEC: TO-226-AA; ComponentLink1Description: Manufacturer URL; ComponentLink1URL: http://www.national.com/; ComponentLink2Description: LM285-1.2 Datasheet; ComponentLink2URL: http://www.national.com/ds/LM/LM285-1.2.pdf; ComponentLink3Description: LM285-1.2 Web Page; ComponentLink3URL: http://www.national.com/pf/LM/LM285-1.2.html; ComponentLink4Description: Z03A Package Page; ComponentLink4URL: http://www.national.com/packaging/folders/z03a.html
footprint Z03A (TO, Flat Index; 3 In-Line, Axial Leads; Body Dia. 5mm; Leads 0.55 x 0.50 mm (max))
pins: 1 NC, 2 +V, 3 -V

## LM285Z-2.5
designator U?
Micropower Voltage Reference Diode, 3-pin TO-92; PartNumber: LM285Z-2.5; Manufacturer: National Semiconductor; PackageTopMarking: NSXYTT*LM285*Z-2.5; PowerWise: N; CompType: Voltage Reference IC; High-Reliability: Y; DatasheetVersion: Jan-2008; PackageVersion: revG, Sep-2000; PackageReference: Z03A; PackageDescription: TO-92, Molded, 3 Lead; RoHS: N; PinCount: 3; Code_JEDEC: TO-226-AA; ComponentLink1Description: Manufacturer URL; ComponentLink1URL: http://www.national.com/; ComponentLink2Description: LM285-2.5 Datasheet; ComponentLink2URL: http://www.national.com/ds/LM/LM285-2.5.pdf; ComponentLink3Description: LM285-2.5 Web Page; ComponentLink3URL: http://www.national.com/pf/LM/LM285-2.5.html; ComponentLink4Description: Z03A Package Page; ComponentLink4URL: http://www.national.com/packaging/folders/z03a.html
footprint Z03A (TO, Flat Index; 3 In-Line, Axial Leads; Body Dia. 5mm; Leads 0.55 x 0.50 mm (max))
pins: 1 NC, 2 +V, 3 -V

## LM329DZ
designator U?
Precision Reference, 3-pin TO-92; PartNumber: LM329DZ; Manufacturer: National Semiconductor; PackageTopMarking: NSXYTT*LM329*DZ; PowerWise: N; CompType: Voltage Reference IC; High-Reliability: Y; DatasheetVersion: Jan-2008; PackageVersion: revG, Sep-2000; PackageReference: Z03A; PackageDescription: TO-92, Molded, 3 Lead; RoHS: N; PinCount: 3; Code_JEDEC: TO-226-AA; ComponentLink1Description: Manufacturer URL; ComponentLink1URL: http://www.national.com/; ComponentLink2Description: LM329 Datasheet; ComponentLink2URL: http://www.national.com/ds/LM/LM329.pdf; ComponentLink3Description: LM329 Web Page; ComponentLink3URL: http://www.national.com/pf/LM/LM329.html; ComponentLink4Description: Z03A Package Page; ComponentLink4URL: http://www.national.com/packaging/folders/z03a.html
footprint Z03A (TO, Flat Index; 3 In-Line, Axial Leads; Body Dia. 5mm; Leads 0.55 x 0.50 mm (max))
pins: 1 NC, 2 +V, 3 -V

## LM329DZ/NOPB
designator U?
Precision Reference, 3-pin TO-92, Pb-Free; PartNumber: LM329DZ/NOPB; Manufacturer: National Semiconductor; PackageTopMarking: NSXYTT*LM329*DZ; PowerWise: N; CompType: Voltage Reference IC; High-Reliability: Y; DatasheetVersion: Jan-2008; PackageVersion: revG, Sep-2000; PackageReference: Z03A; PackageDescription: TO-92, Molded, 3 Lead; RoHS: Y; PinCount: 3; Code_JEDEC: TO-226-AA; ComponentLink1Description: Manufacturer URL; ComponentLink1URL: http://www.national.com/; ComponentLink2Description: LM329 Datasheet; ComponentLink2URL: http://www.national.com/ds/LM/LM329.pdf; ComponentLink3Description: LM329 Web Page; ComponentLink3URL: http://www.national.com/pf/LM/LM329.html; ComponentLink4Description: Z03A Package Page; ComponentLink4URL: http://www.national.com/packaging/folders/z03a.html
footprint Z03A (TO, Flat Index; 3 In-Line, Axial Leads; Body Dia. 5mm; Leads 0.55 x 0.50 mm (max))
pins: 1 NC, 2 +V, 3 -V

## LM336BM-2.5
designator U?
Voltage Reference Diode, 8-pin Narrow SOIC; PartNumber: LM336BM-2.5; Manufacturer: National Semiconductor; PackageTopMarking: NSZXTT*LM336*BM2.5; PowerWise: N; CompType: Voltage Reference IC; High-Reliability: Y; DatasheetVersion: Jun-2005; PackageVersion: revM, May-2009; PackageReference: M08A; PackageDescription: SOIC Narrow, 4.9 x 3.9 x 1.45mm, 8 Lead, 1.27mm Pitch; RoHS: N; PinCount: 8; Code_JEDEC: MS-012-AA; Code_IPC: SOIC127P600-8; ComponentLink1Description: Manufacturer URL; ComponentLink1URL: http://www.national.com/; ComponentLink2Description: LM136-2.5 Datasheet; ComponentLink2URL: http://www.national.com/ds/LM/LM136-2.5.pdf; ComponentLink3Description: LM336-2.5 Web Page; ComponentLink3URL: http://www.national.com/pf/LM/LM336-2.5.html; ComponentLink4Description: M08A Package Page; ComponentLink4URL: http://www.national.com/packaging/folders/m08a.html
footprint M08A_N (SOIC, 8-Leads, Body 4.9x3.9mm, Pitch 1.27mm, IPC Medium Density)
footprint M08A_L (SOIC, 8-Leads, Body 4.9x3.9mm, Pitch 1.27mm, IPC High Density)
footprint M08A_M (SOIC, 8-Leads, Body 4.9x3.9mm, Pitch 1.27mm, IPC Low Density)
pins: 1 NC, 2 NC, 3 NC, 4 -V, 5 ADJ, 6 NC, 7 NC, 8 +V

## LM336BM-2.5/NOPB
designator U?
Voltage Reference Diode, 8-pin Narrow SOIC, Pb-Free; PartNumber: LM336BM-2.5/NOPB; Manufacturer: National Semiconductor; PackageTopMarking: NSZXTT*LM336*BM2.5; PowerWise: N; CompType: Voltage Reference IC; High-Reliability: Y; DatasheetVersion: Feb-2009; PackageVersion: revM, May-2009; PackageReference: M08A; PackageDescription: SOIC Narrow, 4.9 x 3.9 x 1.45mm, 8 Lead, 1.27mm Pitch; RoHS: Y; PinCount: 8; Code_JEDEC: MS-012-AA; Code_IPC: SOIC127P600-8; ComponentLink1Description: Manufacturer URL; ComponentLink1URL: http://www.national.com/; ComponentLink2Description: LM136-2.5 Datasheet; ComponentLink2URL: http://www.national.com/ds/LM/LM136-2.5.pdf; ComponentLink3Description: LM336-2.5 Web Page; ComponentLink3URL: http://www.national.com/pf/LM/LM336-2.5.html; ComponentLink4Description: M08A Package Page; ComponentLink4URL: http://www.national.com/packaging/folders/m08a.html
footprint M08A_N (SOIC, 8-Leads, Body 4.9x3.9mm, Pitch 1.27mm, IPC Medium Density)
footprint M08A_L (SOIC, 8-Leads, Body 4.9x3.9mm, Pitch 1.27mm, IPC High Density)
footprint M08A_M (SOIC, 8-Leads, Body 4.9x3.9mm, Pitch 1.27mm, IPC Low Density)
pins: 1 NC, 2 NC, 3 NC, 4 -V, 5 ADJ, 6 NC, 7 NC, 8 +V

## LM336BM-5.0
designator U?
5.0V Reference Diode, 8-pin Narrow SOIC; PartNumber: LM336BM-5.0; Manufacturer: National Semiconductor; PackageTopMarking: NSZXTT*LM336*BM5.0; PowerWise: N; CompType: Voltage Reference IC; High-Reliability: Y; DatasheetVersion: Jun-2005; PackageVersion: revM, May-2009; PackageReference: M08A; PackageDescription: SOIC Narrow, 4.9 x 3.9 x 1.45mm, 8 Lead, 1.27mm Pitch; RoHS: N; PinCount: 8; Code_JEDEC: MS-012-AA; Code_IPC: SOIC127P600-8; ComponentLink1Description: Manufacturer URL; ComponentLink1URL: http://www.national.com/; ComponentLink2Description: LM136-5.0 Datasheet; ComponentLink2URL: http://www.national.com/ds/LM/LM136-5.0.pdf; ComponentLink3Description: LM336-5.0 Web Page; ComponentLink3URL: http://www.national.com/pf/LM/LM336-5.0.html; ComponentLink4Description: M08A Package Page; ComponentLink4URL: http://www.national.com/packaging/folders/m08a.html
footprint M08A_N (SOIC, 8-Leads, Body 4.9x3.9mm, Pitch 1.27mm, IPC Medium Density)
footprint M08A_L (SOIC, 8-Leads, Body 4.9x3.9mm, Pitch 1.27mm, IPC High Density)
footprint M08A_M (SOIC, 8-Leads, Body 4.9x3.9mm, Pitch 1.27mm, IPC Low Density)
pins: 1 NC, 2 NC, 3 NC, 4 -V, 5 ADJ, 6 NC, 7 NC, 8 +V